# Altium integrated library Analog Devices Data Converters Digital-to-Analog Converters.IntLib: 2231 symbols (part 46 of 181)
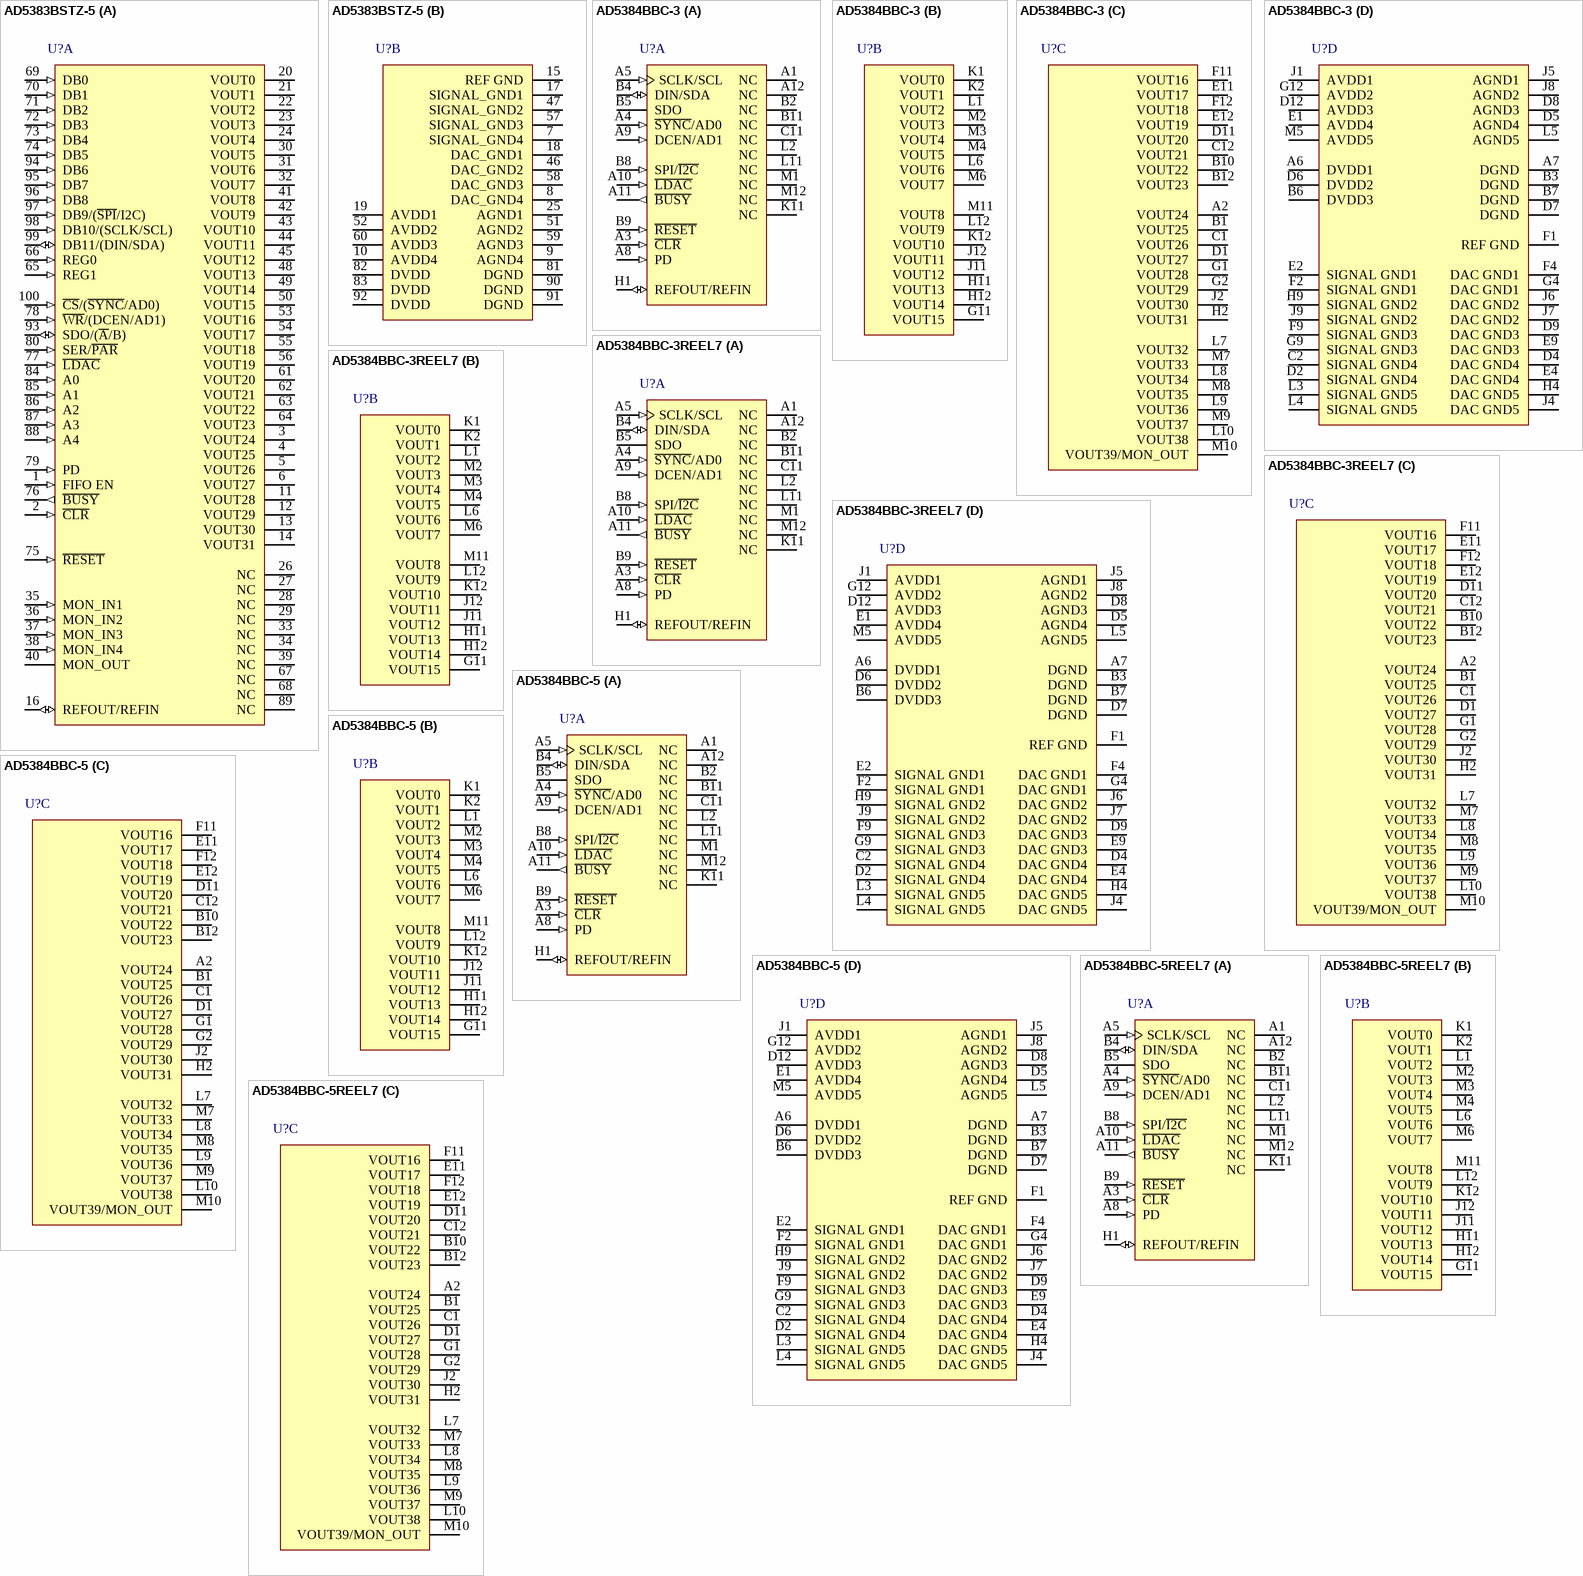
[diagram p159: symbols AD5383BSTZ-5 to AD5384BBC-5REEL7]

## AD5384BBC-5
designator U?
40 Channel 14-Bit Single-Supply Voltage Output Digital-to-Analog Converter, 5 V, -40 to +85 degC, BC-100-2, Tray; Generic Part Number: AD5384; Manufacturer: Analog Devices; PartNumber: AD5384BBC-5; # DAC Outputs: 40; Max V+: 5.5V; Op Pwr Diss: 80mW; Resolution (Bits): 14; Settling Time: 8µs; Single Supply: Yes; DatasheetVersion: Rev.A; PackageVersion: 012006-0; PackageReference: BC-100-2; PackageDescription: 100-Ball Chip Scale Package Ball Grid Array [CSP_BGA]; Supplier 1: Digi-Key; Supplier Part Number 1: AD5384BBC-5-ND; Supplier 2: Newark; Supplier Part Number 2: 59K4046; Packing: Tray; RoHS: N; Mounting Technology: Surface Mount; Code_JEDEC: MO-205-AC*; ComponentLink1Description: Manufacturer URL; ComponentLink1URL: http://www.analog.com/en/index.html; ComponentLink2Description: Datasheet; ComponentLink2URL: http://www.analog.com/static/imported-files/data_sheets/AD5384.pdf; ComponentLink3Description: Package Specification; ComponentLink3URL: http://www.analog.com/static/imported-files/packages/PKG_PDF/CSPBGA%20(BC)/BC_100_2.pdf; ComponentLink4Description: Product URL; ComponentLink4URL: http://www.analog.com/en/digital-to-analog-converters/da-converters/ad5384/products/product.html
footprint BC-100-2 (BGA, 100-Leads, Body 10x10mm, Pitch 0.8mm)
part A pins: A1 NC "No Connect. The user is advised not to connect any signals to these pins.", A3 ~{CLR} (in) "Asynchronous Clear Input. The CLR input is falling edge sensitive. When C\L\R\ is activated, all channels are updated with the data in the C\L\R\ code register. B\U\S\Y\ is low for a duration of 35 us while all channels are (See Datasheet)", A4 ~{SYNC}/AD0 (in) "Serial Interface Mode. This is the frame synchronization input signal for the serial clocks before the addressed register is updated.I2C Mode. This pin acts as a hardware address pin used in conjunction with AD1 to determine (See Datasheet)", A5 SCLK/SCL (in) "Serial Interface Mode. In serial interface mode, data is clocked into the shift register on the falling edge of SCLK. This operates at clock speeds up to 30 MHz.I2C Mode. In I2C mode, this pin performs the SCL function, (See Datasheet)", A8 PD (in) "Power Down (Level Sensitive, Active High). PD is used to place the device in low power mode, where AIDD reduces to 2 uA and DIDD to 20 uA. In power-down mode, all internal analog circuitry is placed in low power mode, and (See Datasheet)", A9 DCEN/AD1 (in) "Multifunction Pin. In serial interface mode, this pin acts as a daisy-chain enable in SPI mode and as a hardware address pin in I2C mode.Serial Interface. Daisy-chain select input (level sensitive, active high). When high, (See Datasheet)", A10 ~{LDAC} (in) "Load DAC Logic Input (Active Low). If L\D\A\C\ is taken low while B\U\S\Y\ is inactive (high), the contents of the input registers are transferred to the DAC registers, and the DAC outputs are updated. If L\D\A\C\ is taken (See Datasheet)", A11 ~{BUSY} (out), A12 NC "No Connect. The user is advised not to connect any signals to these pins.", B2 NC "No Connect. The user is advised not to connect any signals to these pins.", B4 DIN/SDA (io) "Serial Interface Mode. In serial interface mode, this pin acts as the serial data input. Data must be valid on the falling edge of SCLK.I2C Mode. In I2C mode, this pin is the serial data pin (SDA) operating as an open-drain (See Datasheet)", B5 SDO (hiz) "Serial Data Output in Serial Interface Mode. Three-stateable CMOS output. SDO can be used for daisy-chaining a number of devices together. Data is clocked out on SDO on the rising edge of SCLK, and is valid on the falling (See Datasheet)", B8 SPI/~{I2C} (in) "This pin acts as serial interface mode select. When this input is high SPI mode is selected. When low, I2C is selected.", B9 ~{RESET} (in) "Asynchronous Digital Reset Input (Falling Edge Sensitive). The function of this pin is equivalent to that of the power-on reset generator. When this pin is taken low, the state machine initiates a reset sequence to digitally (See Datasheet)", B11 NC "No Connect. The user is advised not to connect any signals to these pins.", C11 NC "No Connect. The user is advised not to connect any signals to these pins.", H1 REFOUT/REFIN (io) "The AD5384 contains a common REFOUT/REFIN pin. The default for this pin is a reference input. When the internal reference is selected, this pin is the reference output. If the application requires an external reference, it (See Datasheet)", K11 NC "No Connect. The user is advised not to connect any signals to these pins.", L2 NC "No Connect. The user is advised not to connect any signals to these pins.", L11 NC "No Connect. The user is advised not to connect any signals to these pins.", M1 NC "No Connect. The user is advised not to connect any signals to these pins.", M12 NC "No Connect. The user is advised not to connect any signals to these pins."
part B pins: G11 VOUT15 (hiz) "Buffered Analog Output for Channel 15. Each analog output is driven by a rail-to-rail output amplifier operating at a gain of 2. Each output is capable of driving an output load of 5 kO to ground. Typical output impedance is (See Datasheet)", H11 VOUT13 (hiz) "Buffered Analog Output for Channel 13. Each analog output is driven by a rail-to-rail output amplifier operating at a gain of 2. Each output is capable of driving an output load of 5 kO to ground. Typical output impedance is (See Datasheet)", H12 VOUT14 (hiz) "Buffered Analog Output for Channel 14. Each analog output is driven by a rail-to-rail output amplifier operating at a gain of 2. Each output is capable of driving an output load of 5 kO to ground. Typical output impedance is (See Datasheet)", J11 VOUT12 (hiz) "Buffered Analog Output for Channel 12. Each analog output is driven by a rail-to-rail output amplifier operating at a gain of 2. Each output is capable of driving an output load of 5 kO to ground. Typical output impedance is (See Datasheet)", J12 VOUT11 (hiz) "Buffered Analog Output for Channel 11. Each analog output is driven by a rail-to-rail output amplifier operating at a gain of 2. Each output is capable of driving an output load of 5 kO to ground. Typical output impedance is (See Datasheet)", K1 VOUT0 (hiz) "Buffered Analog Output for Channel 0. Each analog output is driven by a rail-to-rail output amplifier operating at a gain of 2. Each output is capable of driving an output load of 5 kO to ground. Typical output impedance is (See Datasheet)", K2 VOUT1 (hiz) "Buffered Analog Output for Channel 1. Each analog output is driven by a rail-to-rail output amplifier operating at a gain of 2. Each output is capable of driving an output load of 5 kO to ground. Typical output impedance is (See Datasheet)", K12 VOUT10 (hiz) "Buffered Analog Output for Channel 10. Each analog output is driven by a rail-to-rail output amplifier operating at a gain of 2. Each output is capable of driving an output load of 5 kO to ground. Typical output impedance is (See Datasheet)", L1 VOUT2 (hiz) "Buffered Analog Output for Channel 2. Each analog output is driven by a rail-to-rail output amplifier operating at a gain of 2. Each output is capable of driving an output load of 5 kO to ground. Typical output impedance is (See Datasheet)", L6 VOUT6 (hiz) "Buffered Analog Output for Channel 6. Each analog output is driven by a rail-to-rail output amplifier operating at a gain of 2. Each output is capable of driving an output load of 5 kO to ground. Typical output impedance is (See Datasheet)", L12 VOUT9 (hiz) "Buffered Analog Output for Channel 9. Each analog output is driven by a rail-to-rail output amplifier operating at a gain of 2. Each output is capable of driving an output load of 5 kO to ground. Typical output impedance is (See Datasheet)", M2 VOUT3 (hiz) "Buffered Analog Output for Channel 3. Each analog output is driven by a rail-to-rail output amplifier operating at a gain of 2. Each output is capable of driving an output load of 5 kO to ground. Typical output impedance is (See Datasheet)", M3 VOUT4 (hiz) "Buffered Analog Output for Channel 4. Each analog output is driven by a rail-to-rail output amplifier operating at a gain of 2. Each output is capable of driving an output load of 5 kO to ground. Typical output impedance is (See Datasheet)", M4 VOUT5 (hiz) "Buffered Analog Output for Channel 5. Each analog output is driven by a rail-to-rail output amplifier operating at a gain of 2. Each output is capable of driving an output load of 5 kO to ground. Typical output impedance is (See Datasheet)", M6 VOUT7 (hiz) "Buffered Analog Output for Channel 7. Each analog output is driven by a rail-to-rail output amplifier operating at a gain of 2. Each output is capable of driving an output load of 5 kO to ground. Typical output impedance is (See Datasheet)", M11 VOUT8 (hiz) "Buffered Analog Output for Channel 8. Each analog output is driven by a rail-to-rail output amplifier operating at a gain of 2. Each output is capable of driving an output load of 5 kO to ground. Typical output impedance is (See Datasheet)"
part C pins: A2 VOUT24 (hiz) "Buffered Analog Output for Channel 24. Each analog output is driven by a rail-to-rail output amplifier operating at a gain of 2. Each output is capable of driving an output load of 5 kO to ground. Typical output impedance is (See Datasheet)", B1 VOUT25 (hiz) "Buffered Analog Output for Channel 25. Each analog output is driven by a rail-to-rail output amplifier operating at a gain of 2. Each output is capable of driving an output load of 5 kO to ground. Typical output impedance is (See Datasheet)", B10 VOUT22 (hiz) "Buffered Analog Output for Channel 22. Each analog output is driven by a rail-to-rail output amplifier operating at a gain of 2. Each output is capable of driving an output load of 5 kO to ground. Typical output impedance is (See Datasheet)", B12 VOUT23 (hiz) "Buffered Analog Output for Channel 23. Each analog output is driven by a rail-to-rail output amplifier operating at a gain of 2. Each output is capable of driving an output load of 5 kO to ground. Typical output impedance is (See Datasheet)", C1 VOUT26 (hiz) "Buffered Analog Output for Channel 26. Each analog output is driven by a rail-to-rail output amplifier operating at a gain of 2. Each output is capable of driving an output load of 5 kO to ground. Typical output impedance is (See Datasheet)", C12 VOUT21 (hiz) "Buffered Analog Output for Channel 21. Each analog output is driven by a rail-to-rail output amplifier operating at a gain of 2. Each output is capable of driving an output load of 5 kO to ground. Typical output impedance is (See Datasheet)", D1 VOUT27 (hiz) "Buffered Analog Output for Channel 27. Each analog output is driven by a rail-to-rail output amplifier operating at a gain of 2. Each output is capable of driving an output load of 5 kO to ground. Typical output impedance is (See Datasheet)", D11 VOUT20 (hiz) "Buffered Analog Output for Channel 20. Each analog output is driven by a rail-to-rail output amplifier operating at a gain of 2. Each output is capable of driving an output load of 5 kO to ground. Typical output impedance is (See Datasheet)", E11 VOUT17 (hiz) "Buffered Analog Output for Channel 17. Each analog output is driven by a rail-to-rail output amplifier operating at a gain of 2. Each output is capable of driving an output load of 5 kO to ground. Typical output impedance is (See Datasheet)", E12 VOUT19 (hiz) "Buffered Analog Output for Channel 19. Each analog output is driven by a rail-to-rail output amplifier operating at a gain of 2. Each output is capable of driving an output load of 5 kO to ground. Typical output impedance is (See Datasheet)", F11 VOUT16 (hiz) "Buffered Analog Output for Channel 16. Each analog output is driven by a rail-to-rail output amplifier operating at a gain of 2. Each output is capable of driving an output load of 5 kO to ground. Typical output impedance is (See Datasheet)", F12 VOUT18 (hiz) "Buffered Analog Output for Channel 18. Each analog output is driven by a rail-to-rail output amplifier operating at a gain of 2. Each output is capable of driving an output load of 5 kO to ground. Typical output impedance is (See Datasheet)", G1 VOUT28 (hiz) "Buffered Analog Output for Channel 28. Each analog output is driven by a rail-to-rail output amplifier operating at a gain of 2. Each output is capable of driving an output load of 5 kO to ground. Typical output impedance is (See Datasheet)", G2 VOUT29 (hiz) "Buffered Analog Output for Channel 29. Each analog output is driven by a rail-to-rail output amplifier operating at a gain of 2. Each output is capable of driving an output load of 5 kO to ground. Typical output impedance is (See Datasheet)", H2 VOUT31 (hiz) "Buffered Analog Output for Channel 31. Each analog output is driven by a rail-to-rail output amplifier operating at a gain of 2. Each output is capable of driving an output load of 5 kO to ground. Typical output impedance is (See Datasheet)", J2 VOUT30 (hiz) "Buffered Analog Output for Channel 30. Each analog output is driven by a rail-to-rail output amplifier operating at a gain of 2. Each output is capable of driving an output load of 5 kO to ground. Typical output impedance is (See Datasheet)", L7 VOUT32 (hiz) "Buffered Analog Output for Channel 32. Each analog output is driven by a rail-to-rail output amplifier operating at a gain of 2. Each output is capable of driving an output load of 5 kO to ground. Typical output impedance is (See Datasheet)", L8 VOUT34 (hiz) "Buffered Analog Output for Channel 34. Each analog output is driven by a rail-to-rail output amplifier operating at a gain of 2. Each output is capable of driving an output load of 5 kO to ground. Typical output impedance is (See Datasheet)", L9 VOUT36 (hiz) "Buffered Analog Output for Channel 36. Each analog output is driven by a rail-to-rail output amplifier operating at a gain of 2. Each output is capable of driving an output load of 5 kO to ground. Typical output impedance is (See Datasheet)", L10 VOUT38 (hiz) "Buffered Analog Output for Channel 38. Each analog output is driven by a rail-to-rail output amplifier operating at a gain of 2. Each output is capable of driving an output load of 5 kO to ground. Typical output impedance is (See Datasheet)", M7 VOUT33 (hiz) "Buffered Analog Output for Channel 33. Each analog output is driven by a rail-to-rail output amplifier operating at a gain of 2. Each output is capable of driving an output load of 5 kO to ground. Typical output impedance is (See Datasheet)", M8 VOUT35 (hiz) "Buffered Analog Output for Channel 35. Each analog output is driven by a rail-to-rail output amplifier operating at a gain of 2. Each output is capable of driving an output load of 5 kO to ground. Typical output impedance is (See Datasheet)", M9 VOUT37 (hiz) "Buffered Analog Output for Channel 37. Each analog output is driven by a rail-to-rail output amplifier operating at a gain of 2. Each output is capable of driving an output load of 5 kO to ground. Typical output impedance is (See Datasheet)", M10 VOUT39/MON_OUT (hiz) "This pin has a dual function. It acts a a buffered output for Channel 39 in default mode. But when the monitor function is enabled, this pin acts as the output of a 39-to-1 channel multiplexer that can be programmed to (See Datasheet)"
part D pins: A6 DVDD1 (power) "Logic Power Supply. Guaranteed operating range is 2.7 V to 5.5 V. It is recommended that these pins be decoupled with 0.1 uF ceramic and 10 uF tantalum capacitors to DGND.", A7 DGND (power) "Ground for All Digital Circuitry.", B3 DGND (power) "Ground for All Digital Circuitry.", B6 DVDD3 (power) "Logic Power Supply. Guaranteed operating range is 2.7 V to 5.5 V. It is recommended that these pins be decoupled with 0.1 uF ceramic and 10 uF tantalum capacitors to DGND.", B7 DGND (power) "Ground for All Digital Circuitry.", C2 SIGNAL GND4 (power) "Analog Ground Reference Point for Each Group of Eight Output Channels. All SIGNAL_GND pins are tied together internally and should be connected to the AGND plane as close as possible to the AD5384.", D2 SIGNAL GND4 (power) "Analog Ground Reference Point for Each Group of Eight Output Channels. All SIGNAL_GND pins are tied together internally and should be connected to the AGND plane as close as possible to the AD5384.", D4 DAC GND4 (power) "Each group of eight channels contains a DAC_GND pin. This is the ground reference point for the internal 14-bit DAC. These pins shound be connected to the AGND plane.", D5 AGND4 (power) "Analog Ground Reference Point. Each group of eight channels contains an AGND pin. All AGND pins should be connected externally to the AGND plane.", D6 DVDD2 (power) "Logic Power Supply. Guaranteed operating range is 2.7 V to 5.5 V. It is recommended that these pins be decoupled with 0.1 uF ceramic and 10 uF tantalum capacitors to DGND.", D7 DGND (power) "Ground for All Digital Circuitry.", D8 AGND3 (power) "Analog Ground Reference Point. Each group of eight channels contains an AGND pin. All AGND pins should be connected externally to the AGND plane.", D9 DAC GND3 (power) "Each group of eight channels contains a DAC_GND pin. This is the ground reference point for the internal 14-bit DAC. These pins shound be connected to the AGND plane.", D12 AVDD3 (power) "Analog Supply Pins. Each group of eight channels has a separate AVDD pin. These pins are shorted internally and should be decoupled with a 0.1 uF ceramic capacitor and a 10 uF tantalum capacitor. Operating range for the (See Datasheet)", E1 AVDD4 (power) "Analog Supply Pins. Each group of eight channels has a separate AVDD pin. These pins are shorted internally and should be decoupled with a 0.1 uF ceramic capacitor and a 10 uF tantalum capacitor. Operating range for the (See Datasheet)", E2 SIGNAL GND1 (power) "Analog Ground Reference Point for Each Group of Eight Output Channels. All SIGNAL_GND pins are tied together internally and should be connected to the AGND plane as close as possible to the AD5384.", E4 DAC GND4 (power) "Each group of eight channels contains a DAC_GND pin. This is the ground reference point for the internal 14-bit DAC. These pins shound be connected to the AGND plane.", E9 DAC GND3 (power) "Each group of eight channels contains a DAC_GND pin. This is the ground reference point for the internal 14-bit DAC. These pins shound be connected to the AGND plane.", F1 REF GND (power) "Ground Reference Point for the Internal Reference.", F2 SIGNAL GND1 (power) "Analog Ground Reference Point for Each Group of Eight Output Channels. All SIGNAL_GND pins are tied together internally and should be connected to the AGND plane as close as possible to the AD5384.", F4 DAC GND1 (power) "Each group of eight channels contains a DAC_GND pin. This is the ground reference point for the internal 14-bit DAC. These pins shound be connected to the AGND plane.", F9 SIGNAL GND3 (power) "Analog Ground Reference Point for Each Group of Eight Output Channels. All SIGNAL_GND pins are tied together internally and should be connected to the AGND plane as close as possible to the AD5384.", G4 DAC GND1 (power) "Each group of eight channels contains a DAC_GND pin. This is the ground reference point for the internal 14-bit DAC. These pins shound be connected to the AGND plane.", G9 SIGNAL GND3 (power) "Analog Ground Reference Point for Each Group of Eight Output Channels. All SIGNAL_GND pins are tied together internally and should be connected to the AGND plane as close as possible to the AD5384.", G12 AVDD2 (power) "Analog Supply Pins. Each group of eight channels has a separate AVDD pin. These pins are shorted internally and should be decoupled with a 0.1 uF ceramic capacitor and a 10 uF tantalum capacitor. Operating range for the (See Datasheet)", H4 DAC GND5 (power) "Each group of eight channels contains a DAC_GND pin. This is the ground reference point for the internal 14-bit DAC. These pins shound be connected to the AGND plane.", H9 SIGNAL GND2 (power) "Analog Ground Reference Point for Each Group of Eight Output Channels. All SIGNAL_GND pins are tied together internally and should be connected to the AGND plane as close as possible to the AD5384.", J1 AVDD1 (power) "Analog Supply Pins. Each group of eight channels has a separate AVDD pin. These pins are shorted internally and should be decoupled with a 0.1 uF ceramic capacitor and a 10 uF tantalum capacitor. Operating range for the (See Datasheet)", J4 DAC GND5 (power) "Each group of eight channels contains a DAC_GND pin. This is the ground reference point for the internal 14-bit DAC. These pins shound be connected to the AGND plane.", J5 AGND1 (power) "Analog Ground Reference Point. Each group of eight channels contains an AGND pin. All AGND pins should be connected externally to the AGND plane.", J6 DAC GND2 (power) "Each group of eight channels contains a DAC_GND pin. This is the ground reference point for the internal 14-bit DAC. These pins shound be connected to the AGND plane.", J7 DAC GND2 (power) "Each group of eight channels contains a DAC_GND pin. This is the ground reference point for the internal 14-bit DAC. These pins shound be connected to the AGND plane.", J8 AGND2 (power) "Analog Ground Reference Point. Each group of eight channels contains an AGND pin. All AGND pins should be connected externally to the AGND plane.", J9 SIGNAL GND2 (power) "Analog Ground Reference Point for Each Group of Eight Output Channels. All SIGNAL_GND pins are tied together internally and should be connected to the AGND plane as close as possible to the AD5384.", L3 SIGNAL GND5 (power) "Analog Ground Reference Point for Each Group of Eight Output Channels. All SIGNAL_GND pins are tied together internally and should be connected to the AGND plane as close as possible to the AD5384.", L4 SIGNAL GND5 (power) "Analog Ground Reference Point for Each Group of Eight Output Channels. All SIGNAL_GND pins are tied together internally and should be connected to the AGND plane as close as possible to the AD5384.", L5 AGND5 (power) "Analog Ground Reference Point. Each group of eight channels contains an AGND pin. All AGND pins should be connected externally to the AGND plane.", M5 AVDD5 (power) "Analog Supply Pins. Each group of eight channels has a separate AVDD pin. These pins are shorted internally and should be decoupled with a 0.1 uF ceramic capacitor and a 10 uF tantalum capacitor. Operating range for the (See Datasheet)"

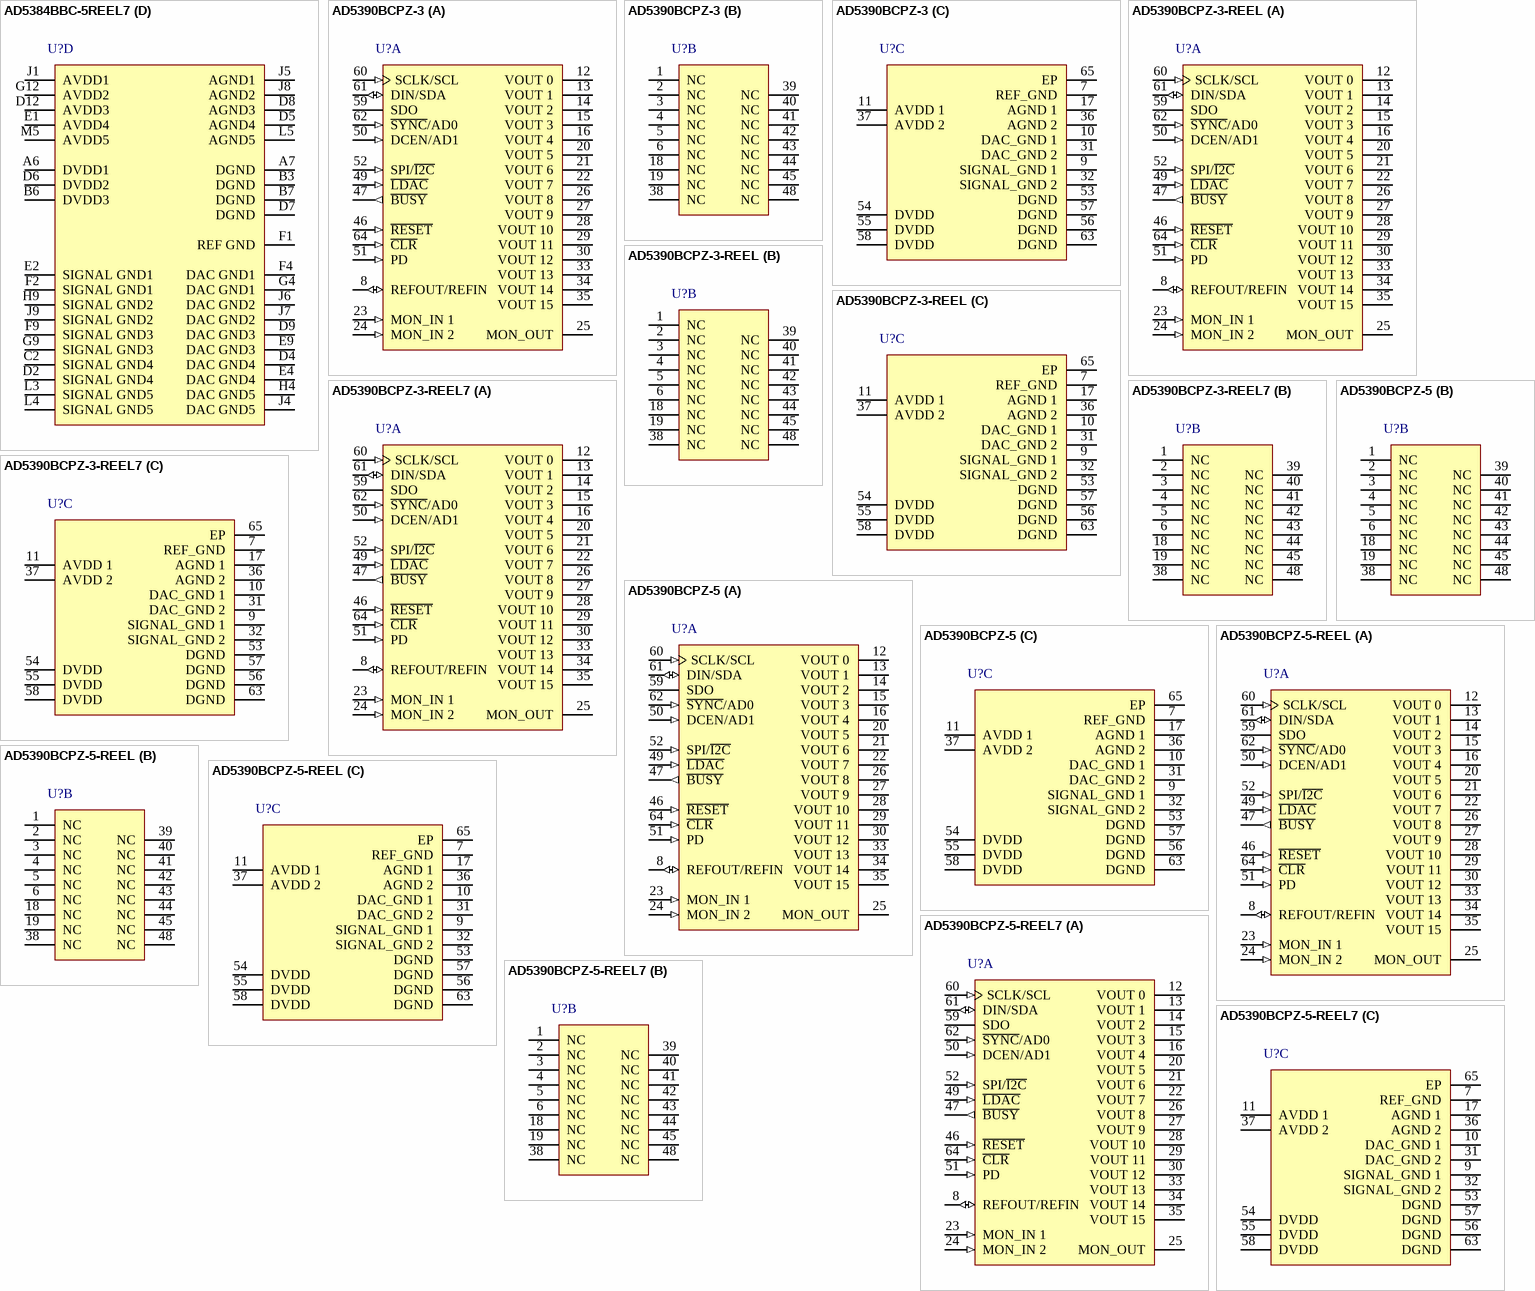
[diagram p26: symbols AD5384BBC-5REEL7 to AD5390BCPZ-5-REEL7]

## AD5384BBC-5REEL7
designator U?
40 Channel 14-Bit Single-Supply Voltage Output Digital-to-Analog Converter, 3 V / 5 V, -40 to +85 degC, BC-100-2, Reel; Generic Part Number: AD5384; Manufacturer: Analog Devices; PartNumber: AD5384BBC-5REEL7; # DAC Outputs: 40; Max V+: 5.5V; Op Pwr Diss: 80mW; Resolution (Bits): 14; Settling Time: 8µs; Single Supply: Yes; DatasheetVersion: Rev.A; PackageVersion: 012006-0; PackageReference: BC-100-2; PackageDescription: 100-Ball Chip Scale Package Ball Grid Array [CSP_BGA]; Supplier 1: Digi-Key; Supplier Part Number 1: AD5384BBC-5REEL7-ND; Supplier 2: Newark; Supplier Part Number 2: 59K4047; Packing: Reel; RoHS: N; Mounting Technology: Surface Mount; Code_JEDEC: MO-205-AC*; ComponentLink1Description: Manufacturer URL; ComponentLink1URL: http://www.analog.com/en/index.html; ComponentLink2Description: Datasheet; ComponentLink2URL: http://www.analog.com/static/imported-files/data_sheets/AD5384.pdf; ComponentLink3Description: Package Specification; ComponentLink3URL: http://www.analog.com/static/imported-files/packages/PKG_PDF/CSPBGA%20(BC)/BC_100_2.pdf; ComponentLink4Description: Product URL; ComponentLink4URL: http://www.analog.com/en/digital-to-analog-converters/da-converters/ad5384/products/product.html
footprint BC-100-2 (BGA, 100-Leads, Body 10x10mm, Pitch 0.8mm)
part A pins: A1 NC "No Connect. The user is advised not to connect any signals to these pins.", A3 ~{CLR} (in) "Asynchronous Clear Input. The CLR input is falling edge sensitive. When C\L\R\ is activated, all channels are updated with the data in the C\L\R\ code register. B\U\S\Y\ is low for a duration of 35 us while all channels are (See Datasheet)", A4 ~{SYNC}/AD0 (in) "Serial Interface Mode. This is the frame synchronization input signal for the serial clocks before the addressed register is updated.I2C Mode. This pin acts as a hardware address pin used in conjunction with AD1 to determine (See Datasheet)", A5 SCLK/SCL (in) "Serial Interface Mode. In serial interface mode, data is clocked into the shift register on the falling edge of SCLK. This operates at clock speeds up to 30 MHz.I2C Mode. In I2C mode, this pin performs the SCL function, (See Datasheet)", A8 PD (in) "Power Down (Level Sensitive, Active High). PD is used to place the device in low power mode, where AIDD reduces to 2 uA and DIDD to 20 uA. In power-down mode, all internal analog circuitry is placed in low power mode, and (See Datasheet)", A9 DCEN/AD1 (in) "Multifunction Pin. In serial interface mode, this pin acts as a daisy-chain enable in SPI mode and as a hardware address pin in I2C mode.Serial Interface. Daisy-chain select input (level sensitive, active high). When high, (See Datasheet)", A10 ~{LDAC} (in) "Load DAC Logic Input (Active Low). If L\D\A\C\ is taken low while B\U\S\Y\ is inactive (high), the contents of the input registers are transferred to the DAC registers, and the DAC outputs are updated. If L\D\A\C\ is taken (See Datasheet)", A11 ~{BUSY} (out), A12 NC "No Connect. The user is advised not to connect any signals to these pins.", B2 NC "No Connect. The user is advised not to connect any signals to these pins.", B4 DIN/SDA (io) "Serial Interface Mode. In serial interface mode, this pin acts as the serial data input. Data must be valid on the falling edge of SCLK.I2C Mode. In I2C mode, this pin is the serial data pin (SDA) operating as an open-drain (See Datasheet)", B5 SDO (hiz) "Serial Data Output in Serial Interface Mode. Three-stateable CMOS output. SDO can be used for daisy-chaining a number of devices together. Data is clocked out on SDO on the rising edge of SCLK, and is valid on the falling (See Datasheet)", B8 SPI/~{I2C} (in) "This pin acts as serial interface mode select. When this input is high SPI mode is selected. When low, I2C is selected.", B9 ~{RESET} (in) "Asynchronous Digital Reset Input (Falling Edge Sensitive). The function of this pin is equivalent to that of the power-on reset generator. When this pin is taken low, the state machine initiates a reset sequence to digitally (See Datasheet)", B11 NC "No Connect. The user is advised not to connect any signals to these pins.", C11 NC "No Connect. The user is advised not to connect any signals to these pins.", H1 REFOUT/REFIN (io) "The AD5384 contains a common REFOUT/REFIN pin. The default for this pin is a reference input. When the internal reference is selected, this pin is the reference output. If the application requires an external reference, it (See Datasheet)", K11 NC "No Connect. The user is advised not to connect any signals to these pins.", L2 NC "No Connect. The user is advised not to connect any signals to these pins.", L11 NC "No Connect. The user is advised not to connect any signals to these pins.", M1 NC "No Connect. The user is advised not to connect any signals to these pins.", M12 NC "No Connect. The user is advised not to connect any signals to these pins."
part B pins: G11 VOUT15 (hiz) "Buffered Analog Output for Channel 15. Each analog output is driven by a rail-to-rail output amplifier operating at a gain of 2. Each output is capable of driving an output load of 5 kO to ground. Typical output impedance is (See Datasheet)", H11 VOUT13 (hiz) "Buffered Analog Output for Channel 13. Each analog output is driven by a rail-to-rail output amplifier operating at a gain of 2. Each output is capable of driving an output load of 5 kO to ground. Typical output impedance is (See Datasheet)", H12 VOUT14 (hiz) "Buffered Analog Output for Channel 14. Each analog output is driven by a rail-to-rail output amplifier operating at a gain of 2. Each output is capable of driving an output load of 5 kO to ground. Typical output impedance is (See Datasheet)", J11 VOUT12 (hiz) "Buffered Analog Output for Channel 12. Each analog output is driven by a rail-to-rail output amplifier operating at a gain of 2. Each output is capable of driving an output load of 5 kO to ground. Typical output impedance is (See Datasheet)", J12 VOUT11 (hiz) "Buffered Analog Output for Channel 11. Each analog output is driven by a rail-to-rail output amplifier operating at a gain of 2. Each output is capable of driving an output load of 5 kO to ground. Typical output impedance is (See Datasheet)", K1 VOUT0 (hiz) "Buffered Analog Output for Channel 0. Each analog output is driven by a rail-to-rail output amplifier operating at a gain of 2. Each output is capable of driving an output load of 5 kO to ground. Typical output impedance is (See Datasheet)", K2 VOUT1 (hiz) "Buffered Analog Output for Channel 1. Each analog output is driven by a rail-to-rail output amplifier operating at a gain of 2. Each output is capable of driving an output load of 5 kO to ground. Typical output impedance is (See Datasheet)", K12 VOUT10 (hiz) "Buffered Analog Output for Channel 10. Each analog output is driven by a rail-to-rail output amplifier operating at a gain of 2. Each output is capable of driving an output load of 5 kO to ground. Typical output impedance is (See Datasheet)", L1 VOUT2 (hiz) "Buffered Analog Output for Channel 2. Each analog output is driven by a rail-to-rail output amplifier operating at a gain of 2. Each output is capable of driving an output load of 5 kO to ground. Typical output impedance is (See Datasheet)", L6 VOUT6 (hiz) "Buffered Analog Output for Channel 6. Each analog output is driven by a rail-to-rail output amplifier operating at a gain of 2. Each output is capable of driving an output load of 5 kO to ground. Typical output impedance is (See Datasheet)", L12 VOUT9 (hiz) "Buffered Analog Output for Channel 9. Each analog output is driven by a rail-to-rail output amplifier operating at a gain of 2. Each output is capable of driving an output load of 5 kO to ground. Typical output impedance is (See Datasheet)", M2 VOUT3 (hiz) "Buffered Analog Output for Channel 3. Each analog output is driven by a rail-to-rail output amplifier operating at a gain of 2. Each output is capable of driving an output load of 5 kO to ground. Typical output impedance is (See Datasheet)", M3 VOUT4 (hiz) "Buffered Analog Output for Channel 4. Each analog output is driven by a rail-to-rail output amplifier operating at a gain of 2. Each output is capable of driving an output load of 5 kO to ground. Typical output impedance is (See Datasheet)", M4 VOUT5 (hiz) "Buffered Analog Output for Channel 5. Each analog output is driven by a rail-to-rail output amplifier operating at a gain of 2. Each output is capable of driving an output load of 5 kO to ground. Typical output impedance is (See Datasheet)", M6 VOUT7 (hiz) "Buffered Analog Output for Channel 7. Each analog output is driven by a rail-to-rail output amplifier operating at a gain of 2. Each output is capable of driving an output load of 5 kO to ground. Typical output impedance is (See Datasheet)", M11 VOUT8 (hiz) "Buffered Analog Output for Channel 8. Each analog output is driven by a rail-to-rail output amplifier operating at a gain of 2. Each output is capable of driving an output load of 5 kO to ground. Typical output impedance is (See Datasheet)"
part C pins: A2 VOUT24 (hiz) "Buffered Analog Output for Channel 24. Each analog output is driven by a rail-to-rail output amplifier operating at a gain of 2. Each output is capable of driving an output load of 5 kO to ground. Typical output impedance is (See Datasheet)", B1 VOUT25 (hiz) "Buffered Analog Output for Channel 25. Each analog output is driven by a rail-to-rail output amplifier operating at a gain of 2. Each output is capable of driving an output load of 5 kO to ground. Typical output impedance is (See Datasheet)", B10 VOUT22 (hiz) "Buffered Analog Output for Channel 22. Each analog output is driven by a rail-to-rail output amplifier operating at a gain of 2. Each output is capable of driving an output load of 5 kO to ground. Typical output impedance is (See Datasheet)", B12 VOUT23 (hiz) "Buffered Analog Output for Channel 23. Each analog output is driven by a rail-to-rail output amplifier operating at a gain of 2. Each output is capable of driving an output load of 5 kO to ground. Typical output impedance is (See Datasheet)", C1 VOUT26 (hiz) "Buffered Analog Output for Channel 26. Each analog output is driven by a rail-to-rail output amplifier operating at a gain of 2. Each output is capable of driving an output load of 5 kO to ground. Typical output impedance is (See Datasheet)", C12 VOUT21 (hiz) "Buffered Analog Output for Channel 21. Each analog output is driven by a rail-to-rail output amplifier operating at a gain of 2. Each output is capable of driving an output load of 5 kO to ground. Typical output impedance is (See Datasheet)", D1 VOUT27 (hiz) "Buffered Analog Output for Channel 27. Each analog output is driven by a rail-to-rail output amplifier operating at a gain of 2. Each output is capable of driving an output load of 5 kO to ground. Typical output impedance is (See Datasheet)", D11 VOUT20 (hiz) "Buffered Analog Output for Channel 20. Each analog output is driven by a rail-to-rail output amplifier operating at a gain of 2. Each output is capable of driving an output load of 5 kO to ground. Typical output impedance is (See Datasheet)", E11 VOUT17 (hiz) "Buffered Analog Output for Channel 17. Each analog output is driven by a rail-to-rail output amplifier operating at a gain of 2. Each output is capable of driving an output load of 5 kO to ground. Typical output impedance is (See Datasheet)", E12 VOUT19 (hiz) "Buffered Analog Output for Channel 19. Each analog output is driven by a rail-to-rail output amplifier operating at a gain of 2. Each output is capable of driving an output load of 5 kO to ground. Typical output impedance is (See Datasheet)", F11 VOUT16 (hiz) "Buffered Analog Output for Channel 16. Each analog output is driven by a rail-to-rail output amplifier operating at a gain of 2. Each output is capable of driving an output load of 5 kO to ground. Typical output impedance is (See Datasheet)", F12 VOUT18 (hiz) "Buffered Analog Output for Channel 18. Each analog output is driven by a rail-to-rail output amplifier operating at a gain of 2. Each output is capable of driving an output load of 5 kO to ground. Typical output impedance is (See Datasheet)", G1 VOUT28 (hiz) "Buffered Analog Output for Channel 28. Each analog output is driven by a rail-to-rail output amplifier operating at a gain of 2. Each output is capable of driving an output load of 5 kO to ground. Typical output impedance is (See Datasheet)", G2 VOUT29 (hiz) "Buffered Analog Output for Channel 29. Each analog output is driven by a rail-to-rail output amplifier operating at a gain of 2. Each output is capable of driving an output load of 5 kO to ground. Typical output impedance is (See Datasheet)", H2 VOUT31 (hiz) "Buffered Analog Output for Channel 31. Each analog output is driven by a rail-to-rail output amplifier operating at a gain of 2. Each output is capable of driving an output load of 5 kO to ground. Typical output impedance is (See Datasheet)", J2 VOUT30 (hiz) "Buffered Analog Output for Channel 30. Each analog output is driven by a rail-to-rail output amplifier operating at a gain of 2. Each output is capable of driving an output load of 5 kO to ground. Typical output impedance is (See Datasheet)", L7 VOUT32 (hiz) "Buffered Analog Output for Channel 32. Each analog output is driven by a rail-to-rail output amplifier operating at a gain of 2. Each output is capable of driving an output load of 5 kO to ground. Typical output impedance is (See Datasheet)", L8 VOUT34 (hiz) "Buffered Analog Output for Channel 34. Each analog output is driven by a rail-to-rail output amplifier operating at a gain of 2. Each output is capable of driving an output load of 5 kO to ground. Typical output impedance is (See Datasheet)", L9 VOUT36 (hiz) "Buffered Analog Output for Channel 36. Each analog output is driven by a rail-to-rail output amplifier operating at a gain of 2. Each output is capable of driving an output load of 5 kO to ground. Typical output impedance is (See Datasheet)", L10 VOUT38 (hiz) "Buffered Analog Output for Channel 38. Each analog output is driven by a rail-to-rail output amplifier operating at a gain of 2. Each output is capable of driving an output load of 5 kO to ground. Typical output impedance is (See Datasheet)", M7 VOUT33 (hiz) "Buffered Analog Output for Channel 33. Each analog output is driven by a rail-to-rail output amplifier operating at a gain of 2. Each output is capable of driving an output load of 5 kO to ground. Typical output impedance is (See Datasheet)", M8 VOUT35 (hiz) "Buffered Analog Output for Channel 35. Each analog output is driven by a rail-to-rail output amplifier operating at a gain of 2. Each output is capable of driving an output load of 5 kO to ground. Typical output impedance is (See Datasheet)", M9 VOUT37 (hiz) "Buffered Analog Output for Channel 37. Each analog output is driven by a rail-to-rail output amplifier operating at a gain of 2. Each output is capable of driving an output load of 5 kO to ground. Typical output impedance is (See Datasheet)", M10 VOUT39/MON_OUT (hiz) "This pin has a dual function. It acts a a buffered output for Channel 39 in default mode. But when the monitor function is enabled, this pin acts as the output of a 39-to-1 channel multiplexer that can be programmed to (See Datasheet)"
part D pins: A6 DVDD1 (power) "Logic Power Supply. Guaranteed operating range is 2.7 V to 5.5 V. It is recommended that these pins be decoupled with 0.1 uF ceramic and 10 uF tantalum capacitors to DGND.", A7 DGND (power) "Ground for All Digital Circuitry.", B3 DGND (power) "Ground for All Digital Circuitry.", B6 DVDD3 (power) "Logic Power Supply. Guaranteed operating range is 2.7 V to 5.5 V. It is recommended that these pins be decoupled with 0.1 uF ceramic and 10 uF tantalum capacitors to DGND.", B7 DGND (power) "Ground for All Digital Circuitry.", C2 SIGNAL GND4 (power) "Analog Ground Reference Point for Each Group of Eight Output Channels. All SIGNAL_GND pins are tied together internally and should be connected to the AGND plane as close as possible to the AD5384.", D2 SIGNAL GND4 (power) "Analog Ground Reference Point for Each Group of Eight Output Channels. All SIGNAL_GND pins are tied together internally and should be connected to the AGND plane as close as possible to the AD5384.", D4 DAC GND4 (power) "Each group of eight channels contains a DAC_GND pin. This is the ground reference point for the internal 14-bit DAC. These pins shound be connected to the AGND plane.", D5 AGND4 (power) "Analog Ground Reference Point. Each group of eight channels contains an AGND pin. All AGND pins should be connected externally to the AGND plane.", D6 DVDD2 (power) "Logic Power Supply. Guaranteed operating range is 2.7 V to 5.5 V. It is recommended that these pins be decoupled with 0.1 uF ceramic and 10 uF tantalum capacitors to DGND.", D7 DGND (power) "Ground for All Digital Circuitry.", D8 AGND3 (power) "Analog Ground Reference Point. Each group of eight channels contains an AGND pin. All AGND pins should be connected externally to the AGND plane.", D9 DAC GND3 (power) "Each group of eight channels contains a DAC_GND pin. This is the ground reference point for the internal 14-bit DAC. These pins shound be connected to the AGND plane.", D12 AVDD3 (power) "Analog Supply Pins. Each group of eight channels has a separate AVDD pin. These pins are shorted internally and should be decoupled with a 0.1 uF ceramic capacitor and a 10 uF tantalum capacitor. Operating range for the (See Datasheet)", E1 AVDD4 (power) "Analog Supply Pins. Each group of eight channels has a separate AVDD pin. These pins are shorted internally and should be decoupled with a 0.1 uF ceramic capacitor and a 10 uF tantalum capacitor. Operating range for the (See Datasheet)", E2 SIGNAL GND1 (power) "Analog Ground Reference Point for Each Group of Eight Output Channels. All SIGNAL_GND pins are tied together internally and should be connected to the AGND plane as close as possible to the AD5384.", E4 DAC GND4 (power) "Each group of eight channels contains a DAC_GND pin. This is the ground reference point for the internal 14-bit DAC. These pins shound be connected to the AGND plane.", E9 DAC GND3 (power) "Each group of eight channels contains a DAC_GND pin. This is the ground reference point for the internal 14-bit DAC. These pins shound be connected to the AGND plane.", F1 REF GND (power) "Ground Reference Point for the Internal Reference.", F2 SIGNAL GND1 (power) "Analog Ground Reference Point for Each Group of Eight Output Channels. All SIGNAL_GND pins are tied together internally and should be connected to the AGND plane as close as possible to the AD5384.", F4 DAC GND1 (power) "Each group of eight channels contains a DAC_GND pin. This is the ground reference point for the internal 14-bit DAC. These pins shound be connected to the AGND plane.", F9 SIGNAL GND3 (power) "Analog Ground Reference Point for Each Group of Eight Output Channels. All SIGNAL_GND pins are tied together internally and should be connected to the AGND plane as close as possible to the AD5384.", G4 DAC GND1 (power) "Each group of eight channels contains a DAC_GND pin. This is the ground reference point for the internal 14-bit DAC. These pins shound be connected to the AGND plane.", G9 SIGNAL GND3 (power) "Analog Ground Reference Point for Each Group of Eight Output Channels. All SIGNAL_GND pins are tied together internally and should be connected to the AGND plane as close as possible to the AD5384.", G12 AVDD2 (power) "Analog Supply Pins. Each group of eight channels has a separate AVDD pin. These pins are shorted internally and should be decoupled with a 0.1 uF ceramic capacitor and a 10 uF tantalum capacitor. Operating range for the (See Datasheet)", H4 DAC GND5 (power) "Each group of eight channels contains a DAC_GND pin. This is the ground reference point for the internal 14-bit DAC. These pins shound be connected to the AGND plane.", H9 SIGNAL GND2 (power) "Analog Ground Reference Point for Each Group of Eight Output Channels. All SIGNAL_GND pins are tied together internally and should be connected to the AGND plane as close as possible to the AD5384.", J1 AVDD1 (power) "Analog Supply Pins. Each group of eight channels has a separate AVDD pin. These pins are shorted internally and should be decoupled with a 0.1 uF ceramic capacitor and a 10 uF tantalum capacitor. Operating range for the (See Datasheet)", J4 DAC GND5 (power) "Each group of eight channels contains a DAC_GND pin. This is the ground reference point for the internal 14-bit DAC. These pins shound be connected to the AGND plane.", J5 AGND1 (power) "Analog Ground Reference Point. Each group of eight channels contains an AGND pin. All AGND pins should be connected externally to the AGND plane.", J6 DAC GND2 (power) "Each group of eight channels contains a DAC_GND pin. This is the ground reference point for the internal 14-bit DAC. These pins shound be connected to the AGND plane.", J7 DAC GND2 (power) "Each group of eight channels contains a DAC_GND pin. This is the ground reference point for the internal 14-bit DAC. These pins shound be connected to the AGND plane.", J8 AGND2 (power) "Analog Ground Reference Point. Each group of eight channels contains an AGND pin. All AGND pins should be connected externally to the AGND plane.", J9 SIGNAL GND2 (power) "Analog Ground Reference Point for Each Group of Eight Output Channels. All SIGNAL_GND pins are tied together internally and should be connected to the AGND plane as close as possible to the AD5384.", L3 SIGNAL GND5 (power) "Analog Ground Reference Point for Each Group of Eight Output Channels. All SIGNAL_GND pins are tied together internally and should be connected to the AGND plane as close as possible to the AD5384.", L4 SIGNAL GND5 (power) "Analog Ground Reference Point for Each Group of Eight Output Channels. All SIGNAL_GND pins are tied together internally and should be connected to the AGND plane as close as possible to the AD5384.", L5 AGND5 (power) "Analog Ground Reference Point. Each group of eight channels contains an AGND pin. All AGND pins should be connected externally to the AGND plane.", M5 AVDD5 (power) "Analog Supply Pins. Each group of eight channels has a separate AVDD pin. These pins are shorted internally and should be decoupled with a 0.1 uF ceramic capacitor and a 10 uF tantalum capacitor. Operating range for the (See Datasheet)"